# Altium footprint library Pro.PcbLib: 18 footprints (part 2 of 2)
Each footprint in its own frame and in the unit in brackets; x right, y up, seen from the top. Pads: shape width x height; smd on the part's side, far side on the other; paste and mask are expansions set on the pad; w line width, h text height; cw(c..) or ccw(c..) is an arc to the next point about the centre after c.
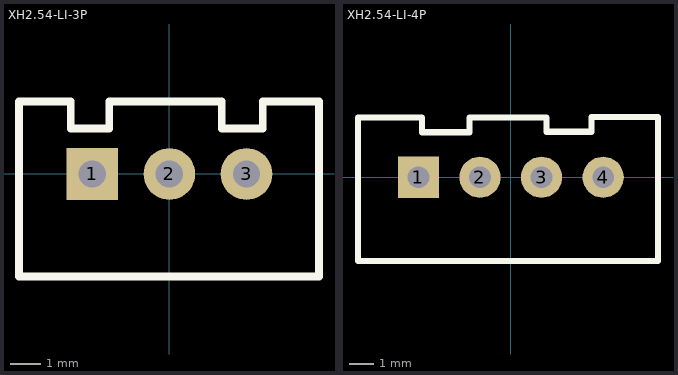
[diagram p1: the footprints below, top view; thin cyan lines are the x and y axes]

## XH2.54-LI-3P [mm] "接插件，3P"
pads (3):
  rect 1.7x1.7 hole 0.9: 1(-2.54,0)
  round 1.7 hole 0.9: 2(0,0) 3(2.54,0)
Top Overlay:
  lines w0.254: -4.953,-3.378 4.928,-3.378 4.928,2.388 3.073,2.388 3.073,1.5 1.727,1.5 1.727,2.388 -1.981,2.388 -1.981,1.5 -3.251,1.5 -3.251,2.388 -4.953,2.388 -4.953,-3.378
3D body "XH2.54-3P.STEP": height 7.03, standoff -2.47, extent -5.04,-3.3 5.04,2.4

## XH2.54-LI-4P [mm] "接插件，4P"
pads (4):
  rect 1.7x1.7 hole 0.9: 1(-3.81,0)
  round 1.7 hole 0.9: 2(-1.27,0) 3(1.27,0) 4(3.81,0)
Top Overlay:
  lines w0.254: -6.299,-3.454 6.071,-3.454 6.071,2.489 3.327,2.489 3.327,1.88 1.473,1.88 1.473,2.464 -1.702,2.464 -1.702,1.854 -3.658,1.854 -3.658,2.464 -6.299,2.464 -6.299,-3.454
3D body "XH2.54-4P.STEP": height 7.03, standoff -2.47, extent -6.31,-3.3 6.31,2.4